# Altium footprint library __ui.PcbLib: 90 footprints (part 4 of 6)
Each footprint in its own frame and in the unit in brackets; x right, y up, seen from the top. Pads: shape width x height; smd on the part's side, far side on the other; paste and mask are expansions set on the pad; w line width, h text height; cw(c..) or ccw(c..) is an arc to the next point about the centre after c.
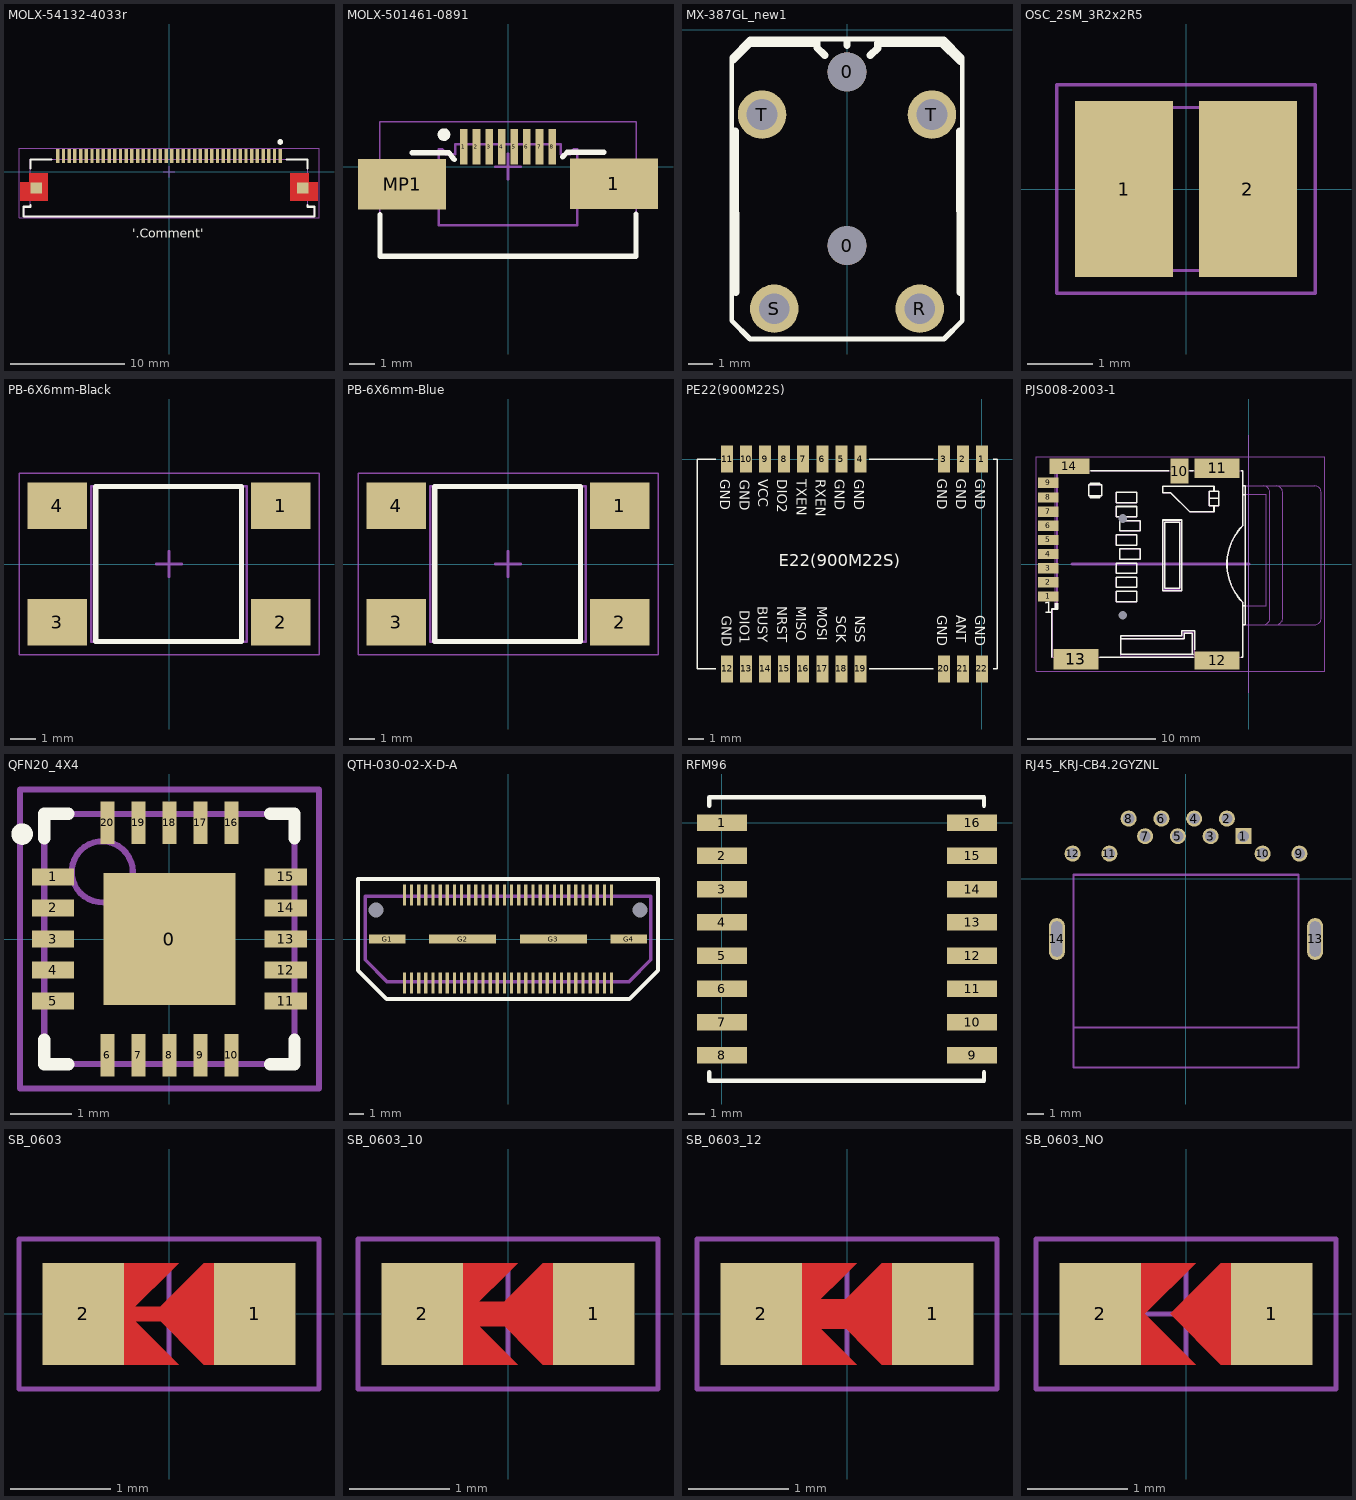
[diagram p3: the footprints below, top view; thin cyan lines are the x and y axes]

## MOLX-54132-4033r [mm] "FPC Connector, 40-Leads, Right Angle, Pitch 0.5 mm, Mated Height 2.0 mm, SMT"
height 2.002
pads (42):
  rect 0.3x1.2 smd: 1(9.75,1.375) 2(9.25,1.375) 3(8.75,1.375) 4(8.25,1.375) 5(7.75,1.375) 6(7.25,1.375) 7(6.75,1.375) 8(6.25,1.375) 9(5.75,1.375) 10(5.25,1.375) 11(4.75,1.375) 12(4.25,1.375) 13(3.75,1.375) 14(3.25,1.375) 15(2.75,1.375) 16(2.25,1.375) 17(1.75,1.375) 18(1.25,1.375) 19(0.75,1.375) 20(0.25,1.375) 21(-0.25,1.375) 22(-0.75,1.375) 23(-1.25,1.375) 24(-1.75,1.375) 25(-2.25,1.375) 26(-2.75,1.375) 27(-3.25,1.375) 28(-3.75,1.375) 29(-4.25,1.375) 30(-4.75,1.375) 31(-5.25,1.375) 32(-5.75,1.375) 33(-6.25,1.375) 34(-6.75,1.375) 35(-7.25,1.375) 36(-7.75,1.375) 37(-8.25,1.375) 38(-8.75,1.375) 39(-9.25,1.375) 40(-9.75,1.375)
  rect 1x1 smd: MP1(-11.63,-1.426) MP2(11.738,-1.426)
Top Layer:
  region: 10.65,-0.125 12.25,-0.125 12.25,-0.925 13.05,-0.925 13.05,-2.525 10.65,-2.525
  region: -10.65,-0.125 -12.25,-0.125 -12.25,-0.925 -13.05,-0.925 -13.05,-2.525 -10.65,-2.525
Top Overlay:
  circle w0.25: c9.762,2.614 r0.125
  lines w0.2: -12.15,-2.925 -12.15,-3.075 -12.75,-3.075 -12.75,-3.925 12.75,-3.925 12.75,-3.075 12.15,-3.075 12.15,-2.925 ; -12.15,0.275 -12.15,1.075 -10.3,1.075 ; 10.3,1.075 12.15,1.075 12.15,0.275
  text "'.Comment'" at -3.226,-5.766 h0.81
Mechanical 13:
  lines w0.1: -12.75,-3.925 -12.75,-3.075 -12.15,-3.075 -12.15,1.075 12.15,1.075 12.15,-3.075 12.75,-3.075 12.75,-3.925 -12.75,-3.925
Mechanical 15:
  lines w0.05: -13.15,-4.025 13.15,-4.025 13.15,2.075 -13.15,2.075 -13.15,-4.025
  lines w0.1: -0.5,0 0.5,0 ; 0,-0.5 0,0.5
3D body "541324033.stp": height 2, standoff 0.01, extent -12.75,-3.925 12.75,1.675

## MOLX-501461-0891 [mm] "FPC Connector, 8-Leads, Right Angle, Pitch 0.5 mm, Mated Height 0.8 mm, SMT"
height 0.812
pads (10):
  rect 0.3x1.41 smd: 1(-1.75,0.778) 2(-1.25,0.778) 3(-0.75,0.778) 4(-0.25,0.778) 5(0.25,0.778) 6(0.75,0.778) 7(1.25,0.778) 8(1.75,0.778)
  rect 3.5x2 smd: 1(4.2,-0.684) MP1(-4.2,-0.699)
Top Overlay:
  circle w0.25: c-2.54,1.27 r0.125
  lines w0.2: -5.08,-1.901 -5.08,-3.556 5.08,-3.556 5.08,-1.885 ; -3.81,0.55 -2.337,0.55 -2.131,0.275 ; 2.159,0.381 2.348,0.57 3.81,0.57
Mechanical 13:
  lines w0.1: -2.75,-2.318 -2.75,0.682 -2.6,0.682 -2.45,0.482 -2.09,0.482 -2.09,0.882 2.09,0.882 2.09,0.482 2.45,0.482 2.6,0.682 2.75,0.682 2.75,-2.318 -2.75,-2.318
Mechanical 15:
  lines w0.05: -5.08,-3.556 -5.08,1.778 5.08,1.778 5.08,-3.556 -5.08,-3.556
  lines w0.1: -0.5,0 0.5,0 ; 0,-0.5 0,0.5

## MX-387GL_new1 [mm] "Pro Signal 3pin receptacle"
height 6
pads (6):
  round 1.6 hole 1.6 unplated: 0(0,-8.9) 0(0,-1.74)
  round 2 hole 1.27: R(3,-11.5) S(-3,-11.5) T(-3.5,-3.5) T(3.5,-3.5)
Top Overlay:
  lines w0.2: -4.75,-12 -4.75,-1.131 -4,-0.381 4,-0.381 4.75,-1.131 4.75,-12 4,-12.75 -4,-12.75 -4.75,-12
  lines w0.305: -4.679,-1.23 -3.929,-0.48 ; -4.608,-4.183 -4.592,-10.833 ; -3.879,-0.567 -1.408,-0.564 ; -1.239,-0.489 -1.239,-0.738 -0.92,-1.057 ; 0,-0.635 0,-0.457 ; 0.959,-1.057 1.261,-0.755 1.261,-0.556 3.842,-0.564 ; 3.914,-0.556 4.664,-1.306 ; 4.642,-4.183 4.658,-10.833

## OSC_2SM_3R2x2R5 [mm] "Crystal 8M Hz 3.2x2.5mm SMD"
pads (2):
  rect 1.5x2.7 smd: 1(-0.95,0) 2(0.95,0)
Mechanical 13:
  lines w0.051: -1.6,-1.25 1.6,-1.25 1.6,1.25 -1.6,1.25 -1.6,-1.25
Mechanical 15:
  lines w0.051: -1.981,-1.6 -1.981,1.6 1.981,1.6 1.981,-1.6 -1.981,-1.6
3D body: height 1, standoff 0, extent -1.6,-1.25 1.6,1.25

## PB-6X6mm-Black [mm] "Surface Mounting Type Tact Switch, 4-Leads, Body 6x6mm, Height 4.5mm Black"
height 4.5
pads (4):
  rect 2.3x1.8 smd: 1(4.325,2.25) 2(4.325,-2.25) 3(-4.325,-2.25) 4(-4.325,2.25)
Top Overlay:
  lines w0.2: -2.831,-3 2.808,-3 2.808,3 -2.831,3 -2.831,-3
Mechanical 13:
  lines w0.1: -3,-3 -3,3 3,3 3,-3 -3,-3
Mechanical 15:
  lines w0.05: -5.8,-3.5 -5.8,3.5 5.8,3.5 5.8,-3.5 -5.8,-3.5
  lines w0.1: -0.5,0 0.5,0 ; 0,-0.5 0,0.5
3D body: height 3.9, standoff 2.3, extent 1.359,-2.956 2.95,-1.362
3D body: height 3.9, standoff 2.3, extent -2.956,-2.951 -1.362,-1.359
3D body: height 3.9, standoff 2.3, extent 1.363,1.359 2.956,2.95
3D body: height 3.9, standoff 2.3, extent -2.951,1.363 -1.359,2.956
3D body: height 10.5, standoff 3.5, extent -1.736,-1.746 1.75,1.747
3D body: height 3.5, standoff 0, extent -3,-3 3,3

## PB-6X6mm-Blue [mm] "Surface Mounting Type Tact Switch, 4-Leads, Body 6x6mm, Height 4.5mm,Blue"
height 4.5
pads (4):
  rect 2.3x1.8 smd: 1(4.325,2.25) 2(4.325,-2.25) 3(-4.325,-2.25) 4(-4.325,2.25)
Top Overlay:
  lines w0.2: -2.831,-3 -2.831,3 2.808,3 2.808,-3 -2.831,-3
Mechanical 13:
  lines w0.1: -3,-3 3,-3 3,3 -3,3 -3,-3
Mechanical 15:
  lines w0.05: -5.8,-3.5 -5.8,3.5 5.8,3.5 5.8,-3.5 -5.8,-3.5
  lines w0.1: -0.5,0 0.5,0 ; 0,-0.5 0,0.5
3D body: height 3.5, standoff 0, extent -3,-3 3,3
3D body: height 10.5, standoff 3.5, extent -1.736,-1.746 1.75,1.747
3D body: height 3.9, standoff 2.3, extent -2.951,1.363 -1.359,2.956
3D body: height 3.9, standoff 2.3, extent 1.363,1.359 2.956,2.95
3D body: height 3.9, standoff 2.3, extent -2.956,-2.951 -1.362,-1.359
3D body: height 3.9, standoff 2.3, extent 1.359,-2.956 2.95,-1.362

## PE22(900M22S) [mm] "20mm*14mm*2.8mm-S"
pads (22):
  rect 0.8x1.8 smd: 1(0,0) 2(-1.27,0) 3(-2.54,0) 4(-8.11,0) 5(-9.38,0) 6(-10.65,0) 7(-11.92,0) 8(-13.19,0) 9(-14.46,0) 10(-15.73,0) 11(-17,0) 12(-17,-14) 13(-15.73,-14) 14(-14.46,-14) 15(-13.19,-14) 16(-11.92,-14) 17(-10.65,-14) 18(-9.38,-14) 19(-8.11,-14) 20(-2.54,-14) 21(-1.27,-14) 22(0,-14)
Top Overlay:
  lines w0.1: -17.75,-14 -19,-14 -19,0 -17.75,0 ; -7.5,-14 -3.25,-14 ; -7.5,0 -3.25,0 ; 0.75,-14 1,-14 1,0 0.75,0
  text "E22(900M22S)" at -13.539,-7.142 h0.8
  text "NSS" at -8.459,-10.444 h0.65
  text "SCK" at -9.729,-10.444 h0.65
  text "MOSI" at -10.999,-9.809 h0.65
  text "MISO" at -12.396,-9.809 h0.65
  text "NRST" at -13.666,-9.809 h0.65
  text "BUSY" at -14.936,-9.809 h0.65
  text "DIO1" at -16.14,-10.097 h0.65
  text "GND" at -17.349,-10.444 h0.65
  text "GND" at -2.996,-10.428 h0.65
  text "ANT" at -1.717,-10.428 h0.65
  text "GND" at -0.438,-10.428 h0.65
  text "GND" at -0.438,-1.323 h0.65
  text "GND" at -1.717,-1.323 h0.65
  text "GND" at -2.996,-1.323 h0.65
  text "GND" at -17.45,-1.353 h0.65
  text "GND" at -16.14,-1.373 h0.65
  text "VCC" at -14.922,-1.353 h0.65
  text "DIO2" at -13.643,-1.353 h0.65
  text "TXEN" at -12.364,-1.353 h0.65
  text "RXEN" at -11.086,-1.353 h0.65
  text "GND" at -9.807,-1.353 h0.65
  text "GND" at -8.528,-1.353 h0.65

## PJS008-2003-1 [mm]
pads (16):
  rect 1.6x0.8 smd paste+0 mask+0.05: 1(-15.6,-2.525) 2(-15.6,-1.425) 3(-15.6,-0.325) 4(-15.6,0.775) 5(-15.6,1.875) 6(-15.6,2.975) 7(-15.6,4.075) 8(-15.6,5.175) 9(-15.6,6.325)
  rect 1.4x1.95 smd paste+0 mask+0.05: 10(-5.4,7.225)
  rect 3.5x1.5 smd paste+0 mask+0.05: 11(-2.45,7.45)
  rect 3.5x1.4 smd paste+0 mask+0.05: 12(-2.45,-7.5)
  rect 3.5x1.6 smd paste+0 mask+0.05: 13(-13.45,-7.4)
  rect 3.1x1.2 smd paste+0 mask+0.05: 14(-13.95,7.6)
  round 0 hole 0.65 unplated mask+0.05: NPTH1(-9.8,-4)
  round 0 hole 0.7 unplated mask+0.05: NPTH2(-9.8,3.55)
Top Overlay:
  lines w0.12: -15.325,-7.25 -15.325,-3.5 -14.85,-3.5 -14.85,-3.05 ; -15.05,-3.5 -15.05,-3.05 ; -14.95,-3.5 -14.95,-3.05 ; -12.325,5.3 -12.325,5.175 -11.575,5.175 -11.575,5.3 ; -12.325,6.175 -12.325,6.3 -11.575,6.3 -11.575,6.175 ; -12.275,7.25 -6.225,7.25 ; -11.575,-7.25 -4.325,-7.25 ; -9.95,-5.825 -5.025,-5.825 -5.025,-5.375 -4.375,-5.375 -4.375,-7.025 ; -4.575,7.25 -4.325,7.25 ; -4.325,-7.025 -9.95,-7.025 -9.95,-5.575 -5.2,-5.575 -5.2,-5.2 -4.2,-5.2 -4.2,-6.675 ; -3.075,5.113 -2.325,5.113 ; -2.7,4.55 -2.7,4.05 -4.575,4.05 -6.075,5.55 -6.7,5.55 -6.7,6.05 -2.7,6.05 -2.7,5.675 ; -0.575,-7.25 -0.45,-7.25 -0.45,-3 cw(c2.55,0) -0.45,3 -0.45,7.25 -0.575,7.25 ; -0.452,-3.257 -0.284,-3.258 ; -0.452,5.379 -0.284,5.378 ; -0.45,-4.725 -0.283,-4.725 -0.283,6.074 -0.45,6.075 ; -12.45,5.3 -11.45,5.3 -11.45,6.175 -12.45,6.175 -12.45,5.3 ; -10.3,-2.925 -10.3,-2.125 -8.7,-2.125 -8.7,-2.925 -10.3,-2.925 ; -10.3,-1.825 -8.7,-1.825 -8.7,-1.025 -10.3,-1.025 -10.3,-1.825 ; -10.3,-0.725 -8.7,-0.725 -8.7,0.075 -10.3,0.075 -10.3,-0.725 ; -10.3,1.475 -8.7,1.475 -8.7,2.275 -10.3,2.275 -10.3,1.475 ; -10.3,3.675 -8.7,3.675 -8.7,4.475 -10.3,4.475 -10.3,3.675 ; -10.3,4.775 -8.7,4.775 -8.7,5.575 -10.3,5.575 -10.3,4.775 ; -10.05,0.375 -8.45,0.375 -8.45,1.175 -10.05,1.175 -10.05,0.375 ; -10.05,2.575 -8.45,2.575 -8.45,3.375 -10.05,3.375 -10.05,2.575 ; -6.7,-2.075 -6.7,3.425 -5.2,3.425 -5.2,-2.075 -6.7,-2.075 ; -6.525,-1.9 -6.525,3.25 -5.375,3.25 -5.375,-1.9 -6.525,-1.9 ; -3.075,4.55 -3.075,5.675 -2.325,5.675 -2.325,4.55 -3.075,4.55
  text "1" at -15.95,-4.15 h1.5
Mechanical 4:
  drawing of 161 lines, arcs and shapes, not listed
  text "1" at -14.45,-3 h1.5
  text "9" at -14.5,5.825 h1.5
  text "10" at -6.075,6.15 h1.5
  text "'.Designator'" at -9.779,-9.144 h0.75
Mechanical 7:
  lines w0.01: 0,-10 0,10
  text "EDGE" at 0.075,-7.575 h1
  text "PCB" at 0.075,10 h1
3D body "PJS008-2003.STEP": height 2, standoff 0, extent -15.035,-7.175 -0.835,7.424

## QFN20_4X4 [mm] "QFN 20 Pins, Pitch 0.5mm, 4mmx4mm"
height 1
pads (21):
  rect 2.159x2.159 smd: 0(0,0)
  rect 0.69x0.28 smd: 1(-1.905,1.016) 2(-1.905,0.508) 3(-1.905,0) 4(-1.905,-0.508) 5(-1.905,-1.016) 11(1.905,-1.016) 12(1.905,-0.508) 13(1.905,0) 14(1.905,0.508) 15(1.905,1.016)
  rect 0.229x0.69 smd: 6(-1.016,-1.905) 7(-0.508,-1.905) 8(0,-1.905) 9(0.508,-1.905) 10(1.016,-1.905) 16(1.016,1.905) 17(0.508,1.905) 18(0,1.905) 19(-0.508,1.905) 20(-1.016,1.905)
Top Overlay:
  circle w0.25: c-2.413,1.719 r0.051
  lines w0.2: -2.05,-1.651 -2.05,-2.05 -1.651,-2.05 ; -2.05,1.651 -2.05,2.05 -1.651,2.05 ; 1.651,-2.05 2.05,-2.05 2.05,-1.651 ; 1.651,2.05 2.05,2.05 2.05,1.651
Mechanical 13:
  circle w0.1: c-1.1,1.1 r0.5
  lines w0.1: -2.05,-2.05 -2.05,2.05 2.05,2.05 2.05,-2.05 -2.05,-2.05
Mechanical 15:
  lines w0.1: -0.5,0 0.5,0 ; 0,-0.5 0,0.5 ; -2.45,-2.45 -2.45,2.45 2.45,2.45 2.45,-2.45 -2.45,-2.45
3D body: height 1, standoff 0.02, extent -2.05,-2.05 2.05,2.05

## QTH-030-02-X-D-A [mm]
pads (66):
  rect 0.229x1.45 smd mask+0.05: 1(-7.25,3.086) 2(-7.25,-3.086) 3(-6.75,3.086) 4(-6.75,-3.086) 5(-6.25,3.086) 6(-6.25,-3.086) 7(-5.75,3.086) 8(-5.75,-3.086) 9(-5.25,3.086) 10(-5.25,-3.086) 11(-4.75,3.086) 12(-4.75,-3.086) 13(-4.25,3.086) 14(-4.25,-3.086) 15(-3.75,3.086) 16(-3.75,-3.086) 17(-3.25,3.086) 18(-3.25,-3.086) 19(-2.75,3.086) 20(-2.75,-3.086) 21(-2.25,3.086) 22(-2.25,-3.086) 23(-1.75,3.086) 24(-1.75,-3.086) 25(-1.25,3.086) 26(-1.25,-3.086) 27(-0.75,3.086) 28(-0.75,-3.086) 29(-0.25,3.086) 30(-0.25,-3.086) 31(0.25,3.086) 32(0.25,-3.086) 33(0.75,3.086) 34(0.75,-3.086) 35(1.25,3.086) 36(1.25,-3.086) 37(1.75,3.086) 38(1.75,-3.086) 39(2.25,3.086) 40(2.25,-3.086) 41(2.75,3.086) 42(2.75,-3.086) 43(3.25,3.086) 44(3.25,-3.086) 45(3.75,3.086) 46(3.75,-3.086) 47(4.25,3.086) 48(4.25,-3.086) 49(4.75,3.086) 50(4.75,-3.086) 51(5.25,3.086) 52(5.25,-3.086) 53(5.75,3.086) 54(5.75,-3.086) 55(6.25,3.086) 56(6.25,-3.086) 57(6.75,3.086) 58(6.75,-3.086) 59(7.25,3.086) 60(7.25,-3.086)
  rect 2.54x0.64 smd mask+0.05: G1(-8.445,0) G4(8.445,0)
  rect 4.7x0.64 smd mask+0.05: G2(-3.175,0) G3(3.175,0)
  round 0 hole 1.02 unplated: MH1(-9.24,2.03) MH2(9.24,2.03)
Top Overlay:
  lines w0.254: -10.5,-2.2 -10.5,4.2 10.5,4.2 10.5,-2.2 8.5,-4.2 -8.5,-4.2 -10.5,-2.2
Mechanical 1:
  lines w0.254: -10,-1.461 -10,2.985 10,2.985 10,-1.461 8.476,-2.985 -8.476,-2.985 -10,-1.461
  text "J1" at -0.497,-0.508 h0.76

## RFM96 [mm]
pads (16):
  rect 3x1 smd: 1(0,0) 2(0,-2) 3(0,-4) 4(0,-6) 5(0,-8) 6(0,-10) 7(0,-12) 8(0,-14) 9(15.037,-14) 10(15.037,-12) 11(15.037,-10) 12(15.037,-8) 13(15.037,-6) 14(15.037,-4) 15(15.037,-2) 16(15.037,0)
Top Overlay:
  lines w0.254: -0.762,-15.016 -0.762,-15.524 15.748,-15.524 15.748,-15.016 ; -0.762,1.016 -0.762,1.524 15.748,1.524 15.748,1.016

## RJ45_KRJ-CB4.2GYZNL [mm] "RJ45  connector, right angle"
height 1
pads (14):
  rect 1x1 hole 0.7: 1(3.57,2.65)
  round 1 hole 0.7: 2(2.55,3.75) 3(1.53,2.65) 4(0.51,3.75) 5(-0.51,2.65) 6(-1.53,3.75) 7(-2.55,2.65) 8(-3.57,3.75) 9(7.06,1.57) 10(4.77,1.57) 11(-4.77,1.57) 12(-7.06,1.57)
  oval 1x2.6 hole 0.7 slot 2.2 at 90 deg: 13(8.04,-3.75) 14(-8.04,-3.75)
Mechanical 1:
  lines w0.127: -7,-9.25 7,-9.25 ; -7,-11.75 -7,0.25 7,0.25 7,-11.75 -7,-11.75
3D body: height 4.2, standoff -4.2, extent -7,-9.25 7,0.25
3D body: height 6.8, standoff 0, extent -8.103,-9.25 8.077,3.465
3D body: height 6.8, standoff -4.2, extent -8.103,-11.75 8.077,-9.25

## SB_0603 [mil] "Jumper"
height 39.37
pads (2):
  rect 32x40 smd: 1(33.75,0) 2(-33.75,0)
Top Layer:
  region: -26.25,0 -16.25,0 3.75,-20 -26.25,-20
  region: -26.25,0 -16.25,0 3.75,20 -26.25,20
  region: 23.75,20 13.75,20 -6.25,0 13.75,-20 23.75,-20
  lines w6: -33.75,0 33.75,0
Top Paste:
  region: -26.25,0 -16.25,0 3.75,-20 -26.25,-20
  region: -26.25,0 -16.25,0 3.75,20 -26.25,20
  region: 23.75,20 13.75,20 -6.25,0 13.75,-20 23.75,-20
Top Solder:
  region: -26.25,0 -12.25,0 11.75,-24 -26.25,-24
  region: -26.25,0 -12.25,0 11.75,24 -26.25,24
  region: 23.75,24 13.75,24 -10.25,0 13.75,-24 23.75,-24
Mechanical 15:
  lines w1.97: -18.7,0 18.7,0 ; 0,-18.7 0,18.7 ; -59.06,-29.53 59.06,-29.53 59.06,29.53 -59.06,29.53 -59.06,-29.53

## SB_0603_10 [mil] "Jumper"
height 39.37
pads (2):
  rect 32x40 smd: 1(33.75,0) 2(-33.75,0)
Top Layer:
  region: 23.75,20 13.75,20 -6.25,0 13.75,-20 23.75,-20
  region: -26.25,0 -16.25,0 3.75,20 -26.25,20
  region: -26.25,0 -16.25,0 3.75,-20 -26.25,-20
  lines w10: -33.75,0 33.75,0
Top Paste:
  region: 23.75,20 13.75,20 -6.25,0 13.75,-20 23.75,-20
  region: -26.25,0 -16.25,0 3.75,20 -26.25,20
  region: -26.25,0 -16.25,0 3.75,-20 -26.25,-20
Top Solder:
  region: 23.75,24 13.75,24 -10.25,0 13.75,-24 23.75,-24
  region: -26.25,0 -12.25,0 11.75,24 -26.25,24
  region: -26.25,0 -12.25,0 11.75,-24 -26.25,-24
Mechanical 15:
  lines w1.97: 0,-18.7 0,18.7 ; -59.06,-29.53 -59.06,29.53 59.06,29.53 59.06,-29.53 -59.06,-29.53

## SB_0603_12 [mil] "Jumper"
height 39.37
pads (2):
  rect 32x40 smd: 1(33.75,0) 2(-33.75,0)
Top Layer:
  region: 23.75,20 13.75,20 -6.25,0 13.75,-20 23.75,-20
  region: -26.25,0 -16.25,0 3.75,20 -26.25,20
  region: -26.25,0 -16.25,0 3.75,-20 -26.25,-20
  lines w12: -33.75,0 33.75,0
Top Paste:
  region: 23.75,20 13.75,20 -6.25,0 13.75,-20 23.75,-20
  region: -26.25,0 -16.25,0 3.75,20 -26.25,20
  region: -26.25,0 -16.25,0 3.75,-20 -26.25,-20
Top Solder:
  region: 23.75,24 13.75,24 -10.25,0 13.75,-24 23.75,-24
  region: -26.25,0 -12.25,0 11.75,24 -26.25,24
  region: -26.25,0 -12.25,0 11.75,-24 -26.25,-24
Mechanical 15:
  lines w1.97: 0,-18.7 0,18.7 ; -59.06,-29.53 -59.06,29.53 59.06,29.53 59.06,-29.53 -59.06,-29.53

## SB_0603_NO [mil] "Jumper"
height 39.37
pads (2):
  rect 32x40 smd: 1(33.75,0) 2(-33.75,0)
Top Layer:
  region: -26.25,0 -16.25,0 3.75,-20 -26.25,-20
  region: -26.25,0 -16.25,0 3.75,20 -26.25,20
  region: 23.75,20 13.75,20 -6.25,0 13.75,-20 23.75,-20
Top Paste:
  region: -26.25,0 -16.25,0 3.75,-20 -26.25,-20
  region: -26.25,0 -16.25,0 3.75,20 -26.25,20
  region: 23.75,20 13.75,20 -6.25,0 13.75,-20 23.75,-20
Top Solder:
  region: -26.25,0 -12.25,0 11.75,-24 -26.25,-24
  region: -26.25,0 -12.25,0 11.75,24 -26.25,24
  region: 23.75,24 13.75,24 -10.25,0 13.75,-24 23.75,-24
Mechanical 15:
  lines w1.97: -18.7,0 18.7,0 ; 0,-18.7 0,18.7 ; -59.06,-29.53 59.06,-29.53 59.06,29.53 -59.06,29.53 -59.06,-29.53